# EAGLE library part 291V1022F832AB (library Shield_Encoder)
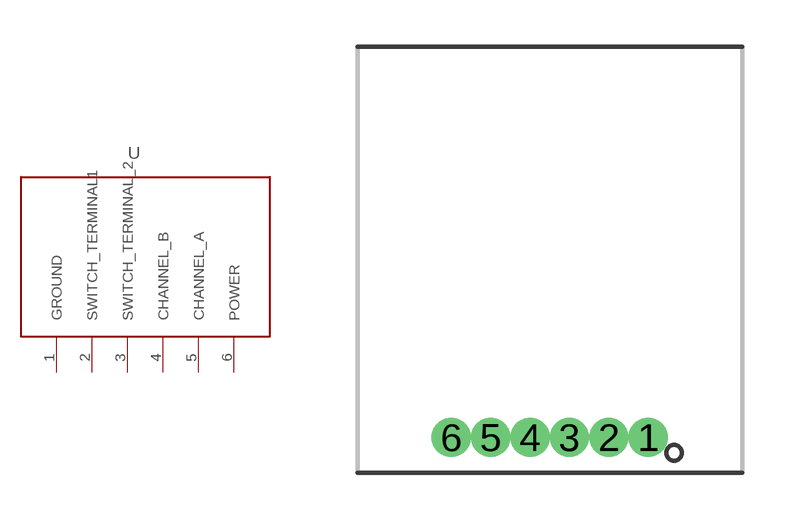
[diagram p0: symbol with the pads of TRAY; footprint TRAY]

Designator prefix -

## 291V1022F832ABTRAY  [TRAY]
1  GROUND  pwr
2  SWITCH_TERMINAL1  pas
3  SWITCH_TERMINAL_2  pas
4  CHANNEL_B  out
5  CHANNEL_A  out
6  POWER  pwr

## Footprint TRAY (pad centres in mm)
drill 0.76 pad 0.96: 1 3.175,-6.25; 2 1.905,-6.25; 3 0.635,-6.25; 4 -0.635,-6.25; 5 -1.905,-6.25; 6 -3.175,-6.25